# Altium footprint library Footprints.PcbLib: 146 footprints (part 4 of 10)
Each footprint in its own frame and in the unit in brackets; x right, y up, seen from the top. Pads: shape width x height; smd on the part's side, far side on the other; paste and mask are expansions set on the pad; w line width, h text height; cw(c..) or ccw(c..) is an arc to the next point about the centre after c.
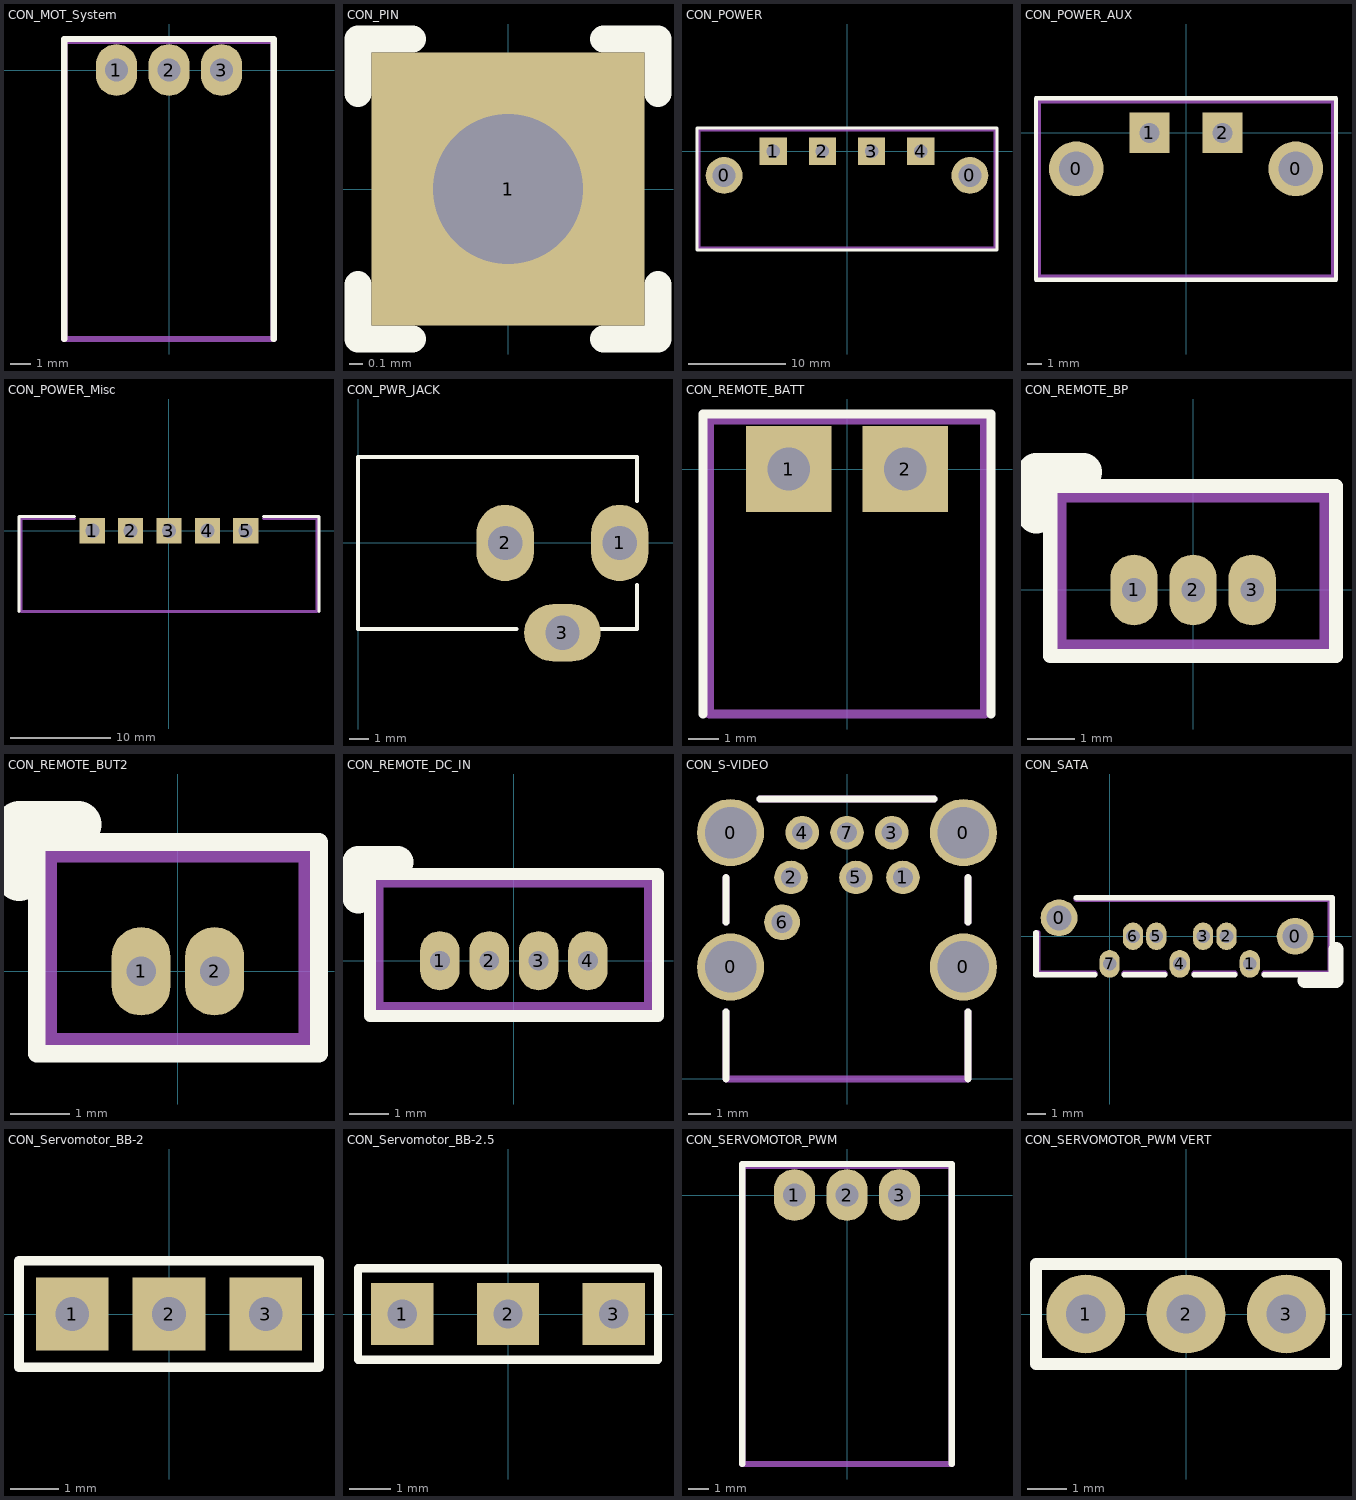
[diagram p3: the footprints below, top view; thin cyan lines are the x and y axes]

## CON_MOT_System [mm] "3-pin low current motor connector"
height 4.2
pads (3):
  oval 2x2.5 hole 1.1: 1(-2.54,0) 2(0,0) 3(2.54,0)
Top Overlay:
  lines w0.3: -5.06,-13 -5.06,-1.5 -5.06,1.5 5.06,1.5 5.06,-1.5 5.06,-13
Mechanical 1:
  lines w0.3: -5.06,-6.6 -5.06,-1.5 -5.06,1.4 ; 5.06,-6.6 5.06,-1.5 5.06,1.4 ; -5.06,1.4 5.06,1.4 ; -5.06,1.4 -5.06,-13 5.06,-13 5.06,1.4

## CON_PIN [mm] "1 pin connector"
height 4
pads (1):
  rect 2x2 hole 1.1: 1(0,0)
Top Overlay:
  lines w0.2: -1.1,-0.7 -1.1,-1.1 -0.7,-1.1 ; -1.1,0.7 -1.1,1.1 -0.7,1.1 ; 0.7,-1.1 1.1,-1.1 1.1,-0.7 ; 0.7,1.1 1.1,1.1 1.1,0.7
Bottom Overlay:
  lines w0.2: -1.1,-0.7 -1.1,-1.1 -0.7,-1.1 ; -1.1,0.7 -1.1,1.1 -0.7,1.1 ; 0.7,-1.1 1.1,-1.1 1.1,-0.7 ; 0.7,1.1 1.1,1.1 1.1,0.7

## CON_POWER [mm] "4-pin Power Connector"
height 8.9
pads (6):
  round 3.8 hole 2.4: 0(-12.7,-2.5) 0(12.7,-2.5)
  rect 2.8x2.8 hole 1.4: 1(-7.62,0) 2(-2.54,0) 3(2.54,0) 4(7.62,0)
Top Overlay:
  lines w0.3: -15.5,-10.2 -15.5,2.4 15.5,2.4 15.5,-10.2 -15.5,-10.2
Mechanical 1:
  lines w0.3: -15.3,-10 15.3,-10 15.3,2.2 -15.3,2.2 -15.3,-10

## CON_POWER_AUX [mm] "2 pin Power Connector"
height 8.9
pads (4):
  round 3.8 hole 2.4: 0(-7.62,-2.5) 0(7.62,-2.5)
  rect 2.8x2.8 hole 1.4: 1(-2.54,0) 2(2.54,0)
Top Overlay:
  lines w0.3: -10.42,-10.2 10.42,-10.2 10.42,2.4 -10.42,2.4 -10.42,-10.2
Mechanical 1:
  lines w0.3: -10.22,-10 -10.22,2.2 10.22,2.2 10.22,-10 -10.22,-10

## CON_POWER_Misc [mm] "5-pin Power Connector"
height 7.25
pads (5):
  rect 2.5x2.5 hole 1.4: 1(-7.62,0) 2(-3.81,0) 3(0,0) 4(3.81,0) 5(7.62,0)
Top Overlay:
  lines w0.3: -14.905,-8 -14.905,1.4 -9.405,1.4 ; 9.405,1.4 14.905,1.4 14.905,-8
Mechanical 1:
  lines w0.3: -9.405,1.2 -14.705,1.2 -14.705,-8 14.705,-8 14.705,1.2 9.405,1.2

## CON_PWR_JACK [mm] "Power jack"
height 8
pads (3):
  oval 3x4 hole 1.8: 1(13.7,0) 2(7.7,0)
  oval 4x3 hole 1.8: 3(10.7,-4.7)
Top Overlay:
  lines w0.2: 8.3,-4.5 0,-4.5 0,4.5 14.6,4.5 14.6,2.2 ; 12.7,-4.5 14.6,-4.5 14.6,-2.2

## CON_REMOTE_BATT [mm] "2 pin Power Connector"
height 8.9
pads (2):
  rect 2.8x2.8 hole 1.4: 1(-1.905,0) 2(1.905,0)
Top Overlay:
  lines w0.3: -4.7,-8 -4.7,1.8 4.7,1.8 4.7,-8
Mechanical 1:
  lines w0.3: -4.5,-8 -4.5,1.6 4.5,1.6 4.5,-8 -4.5,-8

## CON_REMOTE_BP [mm] "Remote Control button or potentiometer connector"
pads (3):
  oval 1x1.5 hole 0.5: 1(-1.25,0) 2(0,0) 3(1.25,0)
Top Overlay:
  lines w0.3: -3.025,-1.4 -3.025,2.2 ; -3,-1.4 3.025,-1.4 3.025,2.2 -3,2.2
  lines w0.8: -3.325,1.6 -3.325,2.5 -2.325,2.5
Mechanical 1:
  lines w0.3: -2.825,-1.2 2.825,-1.2 2.825,2 -2.825,2 -2.825,-1.2

## CON_REMOTE_BUT2 [mm] "Remote control 2-pin button connector"
pads (2):
  oval 1x1.5 hole 0.5: 1(-0.625,0) 2(0.625,0)
Top Overlay:
  lines w0.3: -2.4,2.2 -2.4,-1.4 2.4,-1.4 2.4,2.2 -2.375,2.2
  lines w0.8: -2.7,1.6 -2.7,2.5 -1.7,2.5
Mechanical 1:
  lines w0.3: -2.2,-1.2 -2.2,2 2.2,2 2.2,-1.2 -2.2,-1.2

## CON_REMOTE_DC_IN [mm] "Remote control DC input connector"
height 4.2
pads (4):
  oval 1x1.5 hole 0.5: 1(-1.875,0) 2(-0.625,0) 3(0.625,0) 4(1.875,0)
Top Overlay:
  lines w0.3: -3.65,-1.4 -3.65,2.2 3.65,2.2 3.65,-1.4 -3.65,-1.4
  lines w0.8: -3.95,1.6 -3.95,2.5 -2.95,2.5
Mechanical 1:
  lines w0.3: -3.45,-1.2 -3.45,2 3.45,2 3.45,-1.2 -3.45,-1.2

## CON_S-VIDEO [mm] "7-pin S-Video Connector"
height 10
pads (11):
  round 3 hole 2.3: 0(-5.2,5) 0(-5.2,11) 0(5.2,5) 0(5.2,11)
  round 1.5 hole 0.9: 1(2.5,9) 2(-2.5,9) 3(2,11) 4(-2,11) 5(0.4,9) 7(0,11)
  round 1.6 hole 0.95: 6(-2.9,7)
Top Overlay:
  lines w0.3: -5.4,0 -5.4,3 ; -5.4,7 -5.4,9 ; -3.9,12.5 3.9,12.5 ; 5.4,0 5.4,3 ; 5.4,7 5.4,9
Mechanical 1:
  lines w0.3: -5.4,3 -5.4,0 5.4,0 5.4,3 ; -5.4,7 -5.4,9 ; -3.9,12.5 3.9,12.5 ; 5.4,7 5.4,9

## CON_SATA [mm] "Internal SATA Connector 7 pin"
height 8.4
pads (9):
  round 2 hole 1.35: 0(-2.75,1) 0(10.08,0)
  oval 1.1x1.5 hole 0.74: 1(7.62,-1.5) 2(6.35,0) 3(5.08,0) 4(3.81,-1.5) 5(2.54,0) 6(1.27,0) 7(0,-1.5)
Top Overlay:
  lines w0.3: -4,0.2 -4,-2.1 -0.8,-2.1 ; -1.8,2.1 12.1,2.1 12.1,-2.1 8.4,-2.1 ; 0.8,-2.1 3,-2.1 ; 4.6,-2.1 6.8,-2.1
  lines w0.8: 10.6,-2.4 12.3,-2.4 12.3,-0.7
Mechanical 1:
  lines w0.3: -3.9,0.2 -3.9,-2 -0.8,-2 ; -1.8,2 12,2 12,-2 8.4,-2 ; 0.8,-2 3,-2 ; 4.6,-2 6.8,-2

## CON_Servomotor_BB-2 [mm] "Board to board sermonotor connector 2mm pitch"
height 2
pads (3):
  rect 1.5x1.5 hole 0.7: 1(-2,0) 2(0,0) 3(2,0)
Top Overlay:
  lines w0.2: -3.1,-1.1 -3.1,1.1 3.1,1.1 3.1,-1.1 -3.1,-1.1

## CON_Servomotor_BB-2.5 [mm] "Board to board sermonotor connector 2.5mm pitch"
height 2
pads (3):
  rect 1.5x1.5 hole 0.7: 1(-2.54,0) 2(0,0) 3(2.54,0)
Top Overlay:
  lines w0.2: -3.6,-1.1 3.6,-1.1 3.6,1.1 -3.6,1.1 -3.6,-1.1

## CON_SERVOMOTOR_PWM [mm] "3-pin PWM servomotor connector"
height 4.2
pads (3):
  oval 2x2.5 hole 1.1: 1(-2.54,0) 2(0,0) 3(2.54,0)
Top Overlay:
  lines w0.3: -5.06,-13 -5.06,-1.5 -5.06,1.5 5.06,1.5 5.06,-1.5 5.06,-13
Mechanical 1:
  lines w0.3: -5.06,-6.6 -5.06,-1.5 -5.06,1.4 ; 5.06,-6.6 5.06,-1.5 5.06,1.4 ; -5.06,1.4 5.06,1.4 ; -5.06,1.4 -5.06,-13 5.06,-13 5.06,1.4

## CON_SERVOMOTOR_PWM VERT [mm] "3-pin PWM servomotor connector (Vertical)"
height 8
pads (3):
  round 2 hole 1: 1(-2.54,0) 2(0,0) 3(2.54,0)
Top Overlay:
  lines w0.3: -3.8,-1.27 -3.8,1.27 3.8,1.27 3.8,-1.27 -3.8,-1.27